# EAGLE library part MOLEX-503908-5100 (library MOLEX-503908-5100)
FFC/FPC-to-Board 0.50mm (.020") SMT Top Contact 0.50mm Pitch Easy-On One-Touch FFC Connector for LVDS Non-ZIF, with Side Locks Bottom Contact Style 3.75mm Height Right Angle, Surface Mount, 51 Circuits Product Page <https://www.molex.com/molex/products/datasheet.jsp?part=active/5039085100_FFC_FPC_CONNECTORS.xml> Product Details (PDF) <http://www.molex.com/webdocs/datasheets/pdf/en-us//5039085100_FFC_FPC_CONNECTORS.pdf> Product Drawing <http://www.molex.com/pdm_docs/sd/5039085100_sd.pdf>
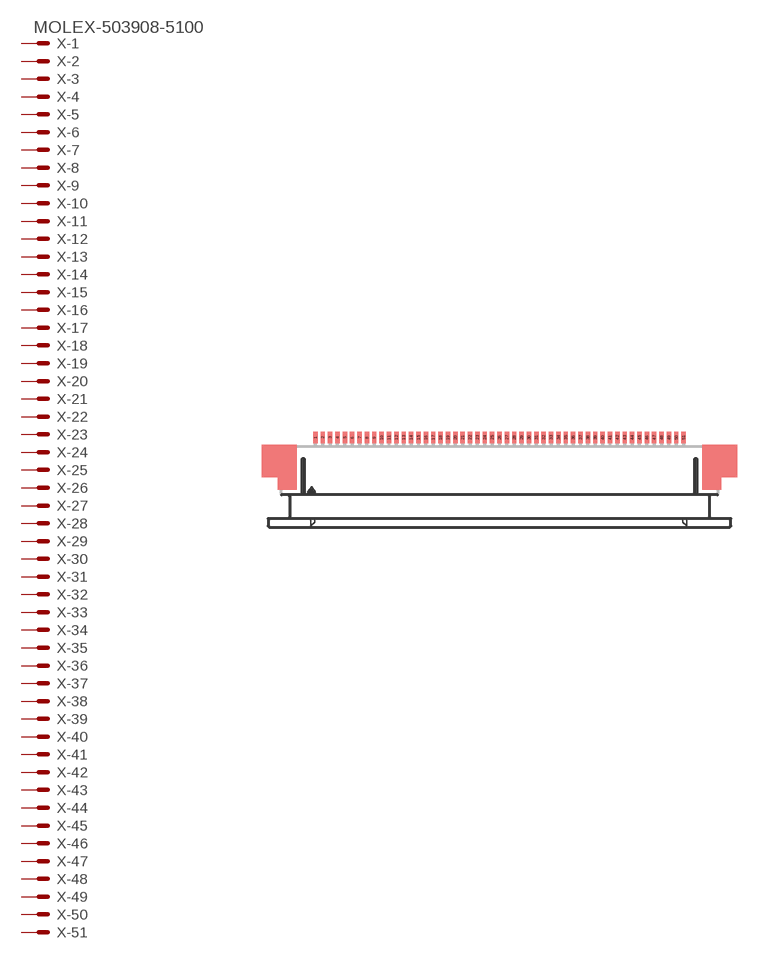
[diagram p0: symbol with the pads of MOLEX-503908-5100; footprint MOLEX-503908-5100]

Designator prefix X; gates -1=MV -2=M -3=M -4=M -5=M -6=M -7=M -8=M -9=M -10=M -11=M -12=M -13=M -14=M -15=M -16=M -17=M -18=M -19=M -20=M -21=M -22=M -23=M -24=M -25=M -26=M -27=M -28=M -29=M -30=M -31=M -32=M -33=M -34=M -35=M -36=M -37=M -38=M -39=M -40=M -41=M -42=M -43=M -44=M -45=M -46=M -47=M -48=M -49=M -50=M -51=M

## MOLEX-503908-5100  [MOLEX-503908-5100]
1  -1:S  pas
2  -2:S  pas
3  -3:S  pas
4  -4:S  pas
5  -5:S  pas
6  -6:S  pas
7  -7:S  pas
8  -8:S  pas
9  -9:S  pas
10  -10:S  pas
11  -11:S  pas
12  -12:S  pas
13  -13:S  pas
14  -14:S  pas
15  -15:S  pas
16  -16:S  pas
17  -17:S  pas
18  -18:S  pas
19  -19:S  pas
20  -20:S  pas
21  -21:S  pas
22  -22:S  pas
23  -23:S  pas
24  -24:S  pas
25  -25:S  pas
26  -26:S  pas
27  -27:S  pas
28  -28:S  pas
29  -29:S  pas
30  -30:S  pas
31  -31:S  pas
32  -32:S  pas
33  -33:S  pas
34  -34:S  pas
35  -35:S  pas
36  -36:S  pas
37  -37:S  pas
38  -38:S  pas
39  -39:S  pas
40  -40:S  pas
41  -41:S  pas
42  -42:S  pas
43  -43:S  pas
44  -44:S  pas
45  -45:S  pas
46  -46:S  pas
47  -47:S  pas
48  -48:S  pas
49  -49:S  pas
50  -50:S  pas
51  -51:S  pas

## Footprint MOLEX-503908-5100 (pad centres in mm)
FFC/FPC-to-Board 0.50mm (.020") SMT Top Contact 0.50mm Pitch Easy-On One-Touch FFC Connector for LVDS Non-ZIF, with Side Locks Bottom Contact Style 3.75mm Height Right Angle, Surface Mount, 51 Circuits Product Page <https://www.molex.com/molex/products/datasheet.jsp?part=active/5039085100_FFC_FPC_CONNECTORS.xml> Product Details (PDF) <http://www.molex.com/webdocs/datasheets/pdf/en-us//5039085100_FFC_FPC_CONNECTORS.pdf> Product Drawing <http://www.molex.com/pdm_docs/sd/5039085100_sd.pdf>
smd 0.3 x 0.8: 1 -7.25,2.5; 2 -6.75,2.5; 3 -6.25,2.5; 4 -5.75,2.5; 5 -5.25,2.5; 6 -4.75,2.5; 7 -4.25,2.5; 8 -3.75,2.5; 9 -3.25,2.5; 10 -2.75,2.5; 11 -2.25,2.5; 12 -1.75,2.5; 13 -1.25,2.5; 14 -0.75,2.5; 15 -0.25,2.5; 16 0.25,2.5; 17 0.75,2.5; 18 1.25,2.5; 19 1.75,2.5; 20 2.25,2.5; 21 2.75,2.5; 22 3.25,2.5; 23 3.75,2.5; 24 4.25,2.5; 25 4.75,2.5; 26 5.25,2.5; 27 5.75,2.5; 28 6.25,2.5; 29 6.75,2.5; 30 7.25,2.5; 31 7.75,2.5; 32 8.25,2.5; 33 8.75,2.5; 34 9.25,2.5; 35 9.75,2.5; 36 10.25,2.5; 37 10.75,2.5; 38 11.25,2.5; 39 11.75,2.5; 40 12.25,2.5; 41 12.75,2.5; 42 13.25,2.5; 43 13.75,2.5; 44 14.25,2.5; 45 14.75,2.5; 46 15.25,2.5; 47 15.75,2.5; 48 16.25,2.5; 49 16.75,2.5; 50 17.25,2.5; 51 17.75,2.5